# Altium footprint library Capacitors_Aluminium.PcbLib: 1 footprints
Each footprint in its own frame and in the unit in brackets; x right, y up, seen from the top. Pads: shape width x height; smd on the part's side, far side on the other; paste and mask are expansions set on the pad; w line width, h text height; cw(c..) or ccw(c..) is an arc to the next point about the centre after c.
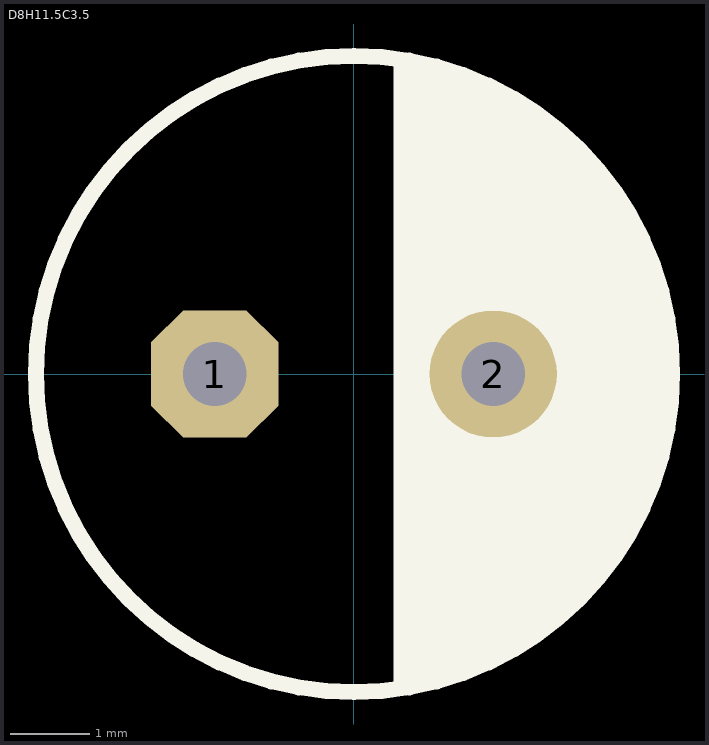
[diagram p0: the footprint, top view; thin cyan lines are the x and y axes]

## D8H11.5C3.5 [mm]
height 12
pads (2):
  oct 1.6x1.6 hole 0.8: 1(-1.75,0)
  round 1.6 hole 0.8: 2(1.75,0)
Top Overlay:
  circle w0.2: c0,0 r4
  region: 0.5,-4 0.5,4 1.3,3.8 2.05,3.45 2.625,3 3.125,2.5 3.575,1.775 3.85,1.1 4,0.325 3.975,-0.425 3.85,-1.125 3.55,-1.85 3.2,-2.4 2.7,-2.95 2.125,-3.375 1.225,-3.8
3D body "User Library-CapAluRadial_D80H115.STEP": height 13, standoff -3, extent -4.25,-4.247 4.25,4.247